# Altium schematic symbol library MMA1725WR2.SchLib: 1 symbol
Pins are listed as number, name and electrical type; pins without a type are passive.

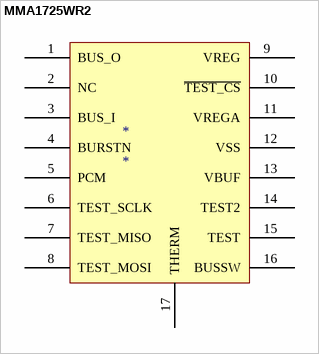
[diagram p0: symbol MMA1725WR2]

## MMA1725WR2
designator *
footprint FP-RGT0016C-IPC_A
pins: 1 BUS_O, 2 NC, 3 BUS_I, 4 BURSTN, 5 PCM, 6 TEST_SCLK, 7 TEST_MISO, 8 TEST_MOSI, 9 VREG, 10 ~{TEST_CS}, 11 VREGA, 12 VSS, 13 VBUF, 14 TEST2, 15 TEST, 16 BUSSW, 17 THERM